# Altium schematic symbol library SMD Resistors.SchLib: 6 symbols
Pins are listed as number, name and electrical type; pins without a type are passive.

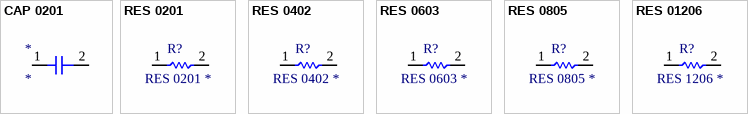
[diagram p0: symbols CAP 0201 to RES 01206]

## CAP 0201
designator *
pins: 1, 2

## RES 0201
designator R?
PartNumber: *; Tolerance: *; Value (Ohms): *
footprint RES 0201
pins: 1, 2

## RES 0402
designator R?
PartNumber: *; Tolerance: *; Value (Ohms): *
footprint RES 0402
pins: 1, 2

## RES 0603
designator R?
PartNumber: *; Tolerance: *; Value (Ohms): *
footprint RES 0603
pins: 1, 2

## RES 0805
designator R?
PartNumber: *; Tolerance: *; Value (Ohms): *
footprint RES 0805
pins: 1, 2

## RES 01206
designator R?, comment RES 1206
PartNumber: *; Tolerance: *; Value (Ohms): *
footprint RES 1206
pins: 1, 2